# Altium schematic symbol library WlasneElementy.SchLib: 10 symbols
Pins are listed as number, name and electrical type; pins without a type are passive.

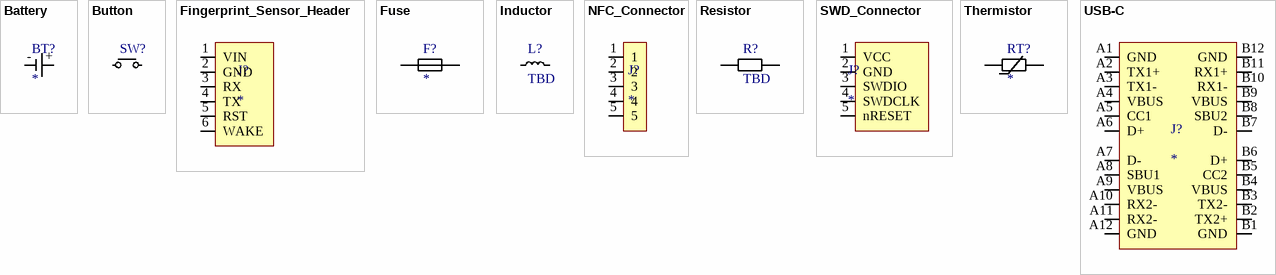
[diagram p0: symbols Battery to USB-C]

## Battery
designator BT?
pins: +, -

## Button
designator SW?
pins: 1, 2

## Fingerprint_Sensor_Header
designator J?
pins: 1 VIN, 2 GND, 3 RX, 4 TX, 5 RST, 6 WAKE

## Fuse
designator F?
pins: 1, 2

## Inductor
designator L?, comment TBD
Value: TBD
pins: ?1, ?2

## NFC_Connector
designator J?
pins: 1, 2, 3, 4, 5

## Resistor
designator R?, comment TBD
Value: TBD
pins: ?1, ?2

## SWD_Connector
designator J?
pins: 1 VCC, 2 GND, 3 SWDIO, 4 SWDCLK, 5 nRESET

## Thermistor
designator RT?
pins: ?1, ?2

## USB-C
designator J?
pins: A1 GND, A2 TX1+, A3 TX1-, A4 VBUS, A5 CC1, A6 D+, A7 D-, A8 SBU1, A9 VBUS, A10 RX2-, A11 RX2-, A12 GND, B1 GND, B2 TX2+, B3 TX2-, B4 VBUS, B5 CC2, B6 D+, B7 D-, B8 SBU2, B9 VBUS, B10 RX1-, B11 RX1+, B12 GND